# EAGLE library part RP2350_STAMP_XL (library rp2xxx_stamp)
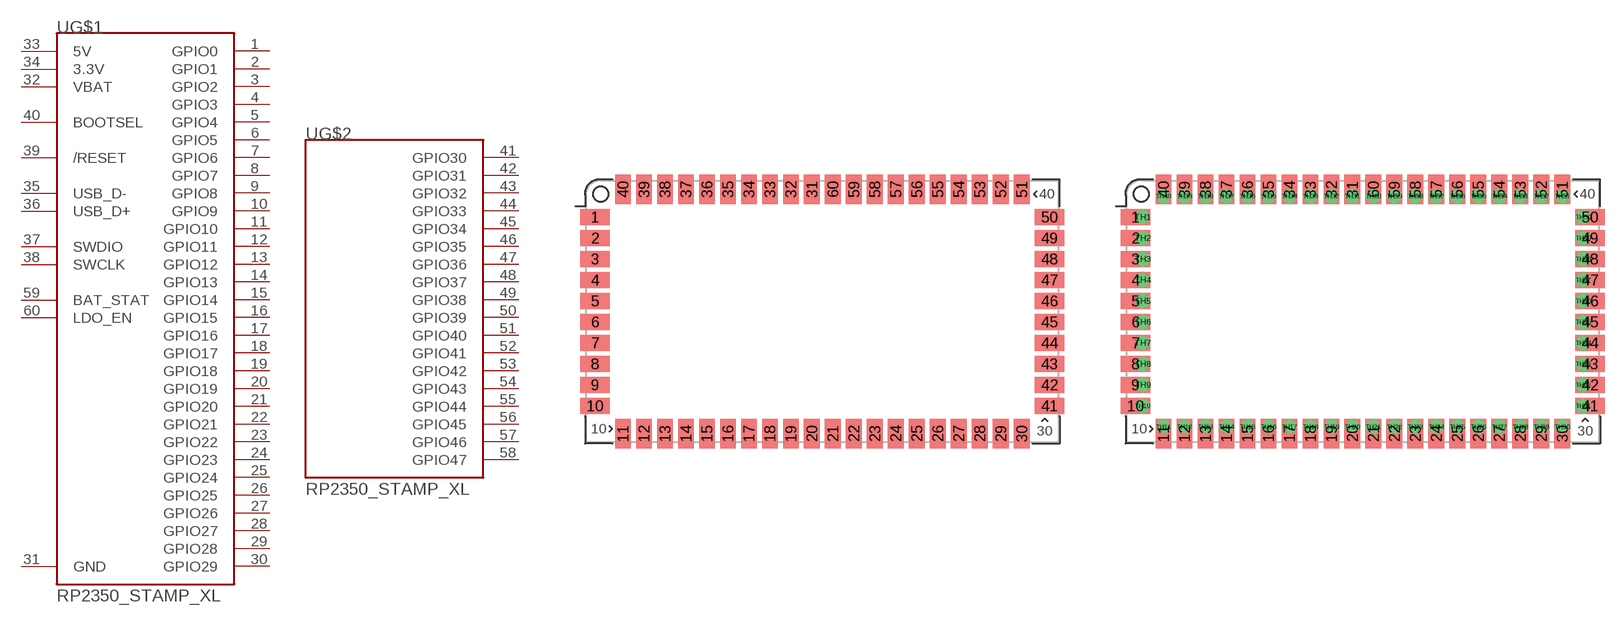
[diagram p2: symbol with the pads of RP2XXX_STAMP_XL_SMD; footprints RP2XXX_STAMP_XL_SMD, RP2XXX_STAMP_XL_THT]

Designator prefix -; gates G$1=RP2350_STAMP_XL G$2=RP2350_STAMP_XL_2

## RP2350_STAMP_XLSMD  [RP2XXX_STAMP_XL_SMD]
1  G$1:GPIO0
2  G$1:GPIO1
3  G$1:GPIO2
4  G$1:GPIO3
5  G$1:GPIO4
6  G$1:GPIO5
7  G$1:GPIO6
8  G$1:GPIO7
9  G$1:GPIO8
10  G$1:GPIO9
11  G$1:GPIO10
12  G$1:GPIO11
13  G$1:GPIO12
14  G$1:GPIO13
15  G$1:GPIO14
16  G$1:GPIO15
17  G$1:GPIO16
18  G$1:GPIO17
19  G$1:GPIO18
20  G$1:GPIO19
21  G$1:GPIO20
22  G$1:GPIO21
23  G$1:GPIO22
24  G$1:GPIO23
25  G$1:GPIO24
26  G$1:GPIO25
27  G$1:GPIO26
28  G$1:GPIO27
29  G$1:GPIO28
30  G$1:GPIO29
31  G$1:GND  pwr
32  G$1:VBAT  pwr
33  G$1:5V  pwr
34  G$1:3.3V  pwr
35  G$1:USB_D-
36  G$1:USB_D+
37  G$1:SWDIO
38  G$1:SWCLK  in
39  G$1:/RESET
40  G$1:BOOTSEL  in
41  G$2:GPIO30
42  G$2:GPIO31
43  G$2:GPIO32
44  G$2:GPIO33
45  G$2:GPIO34
46  G$2:GPIO35
47  G$2:GPIO36
48  G$2:GPIO37
49  G$2:GPIO38
50  G$2:GPIO39
51  G$2:GPIO40
52  G$2:GPIO41
53  G$2:GPIO42
54  G$2:GPIO43
55  G$2:GPIO44
56  G$2:GPIO45
57  G$2:GPIO46
58  G$2:GPIO47
59  G$1:BAT_STAT
60  G$1:LDO_EN  in

## RP2350_STAMP_XLTHT  [RP2XXX_STAMP_XL_THT]
1  G$1:GPIO0
2  G$1:GPIO1
3  G$1:GPIO2
4  G$1:GPIO3
5  G$1:GPIO4
6  G$1:GPIO5
7  G$1:GPIO6
8  G$1:GPIO7
9  G$1:GPIO8
10  G$1:GPIO9
11  G$1:GPIO10
12  G$1:GPIO11
13  G$1:GPIO12
14  G$1:GPIO13
15  G$1:GPIO14
16  G$1:GPIO15
17  G$1:GPIO16
18  G$1:GPIO17
19  G$1:GPIO18
20  G$1:GPIO19
21  G$1:GPIO20
22  G$1:GPIO21
23  G$1:GPIO22
24  G$1:GPIO23
25  G$1:GPIO24
26  G$1:GPIO25
27  G$1:GPIO26
28  G$1:GPIO27
29  G$1:GPIO28
30  G$1:GPIO29
31  G$1:GND  pwr
32  G$1:VBAT  pwr
33  G$1:5V  pwr
34  G$1:3.3V  pwr
35  G$1:USB_D-
36  G$1:USB_D+
37  G$1:SWDIO
38  G$1:SWCLK  in
39  G$1:/RESET
40  G$1:BOOTSEL  in
41  G$2:GPIO30
42  G$2:GPIO31
43  G$2:GPIO32
44  G$2:GPIO33
45  G$2:GPIO34
46  G$2:GPIO35
47  G$2:GPIO36
48  G$2:GPIO37
49  G$2:GPIO38
50  G$2:GPIO39
51  G$2:GPIO40
52  G$2:GPIO41
53  G$2:GPIO42
54  G$2:GPIO43
55  G$2:GPIO44
56  G$2:GPIO45
57  G$2:GPIO46
58  G$2:GPIO47
59  G$1:BAT_STAT
60  G$1:LDO_EN  in
TH1  G$1:GPIO0
TH2  G$1:GPIO1
TH3  G$1:GPIO2
TH4  G$1:GPIO3
TH5  G$1:GPIO4
TH6  G$1:GPIO5
TH7  G$1:GPIO6
TH8  G$1:GPIO7
TH9  G$1:GPIO8
TH10  G$1:GPIO9
TH11  G$1:GPIO10
TH12  G$1:GPIO11
TH13  G$1:GPIO12
TH14  G$1:GPIO13
TH15  G$1:GPIO14
TH16  G$1:GPIO15
TH17  G$1:GPIO16
TH18  G$1:GPIO17
TH19  G$1:GPIO18
TH20  G$1:GPIO19
TH21  G$1:GPIO20
TH22  G$1:GPIO21
TH23  G$1:GPIO22
TH24  G$1:GPIO23
TH25  G$1:GPIO24
TH26  G$1:GPIO25
TH27  G$1:GPIO26
TH28  G$1:GPIO27
TH29  G$1:GPIO28
TH30  G$1:GPIO29
TH31  G$1:GND  pwr
TH32  G$1:VBAT  pwr
TH33  G$1:5V  pwr
TH34  G$1:3.3V  pwr
TH35  G$1:USB_D-
TH36  G$1:USB_D+
TH37  G$1:SWDIO
TH38  G$1:SWCLK  in
TH39  G$1:/RESET
TH40  G$1:BOOTSEL  in
TH41  G$2:GPIO30
TH42  G$2:GPIO31
TH43  G$2:GPIO32
TH44  G$2:GPIO33
TH45  G$2:GPIO34
TH46  G$2:GPIO35
TH47  G$2:GPIO36
TH48  G$2:GPIO37
TH49  G$2:GPIO38
TH50  G$2:GPIO39
TH51  G$2:GPIO40
TH52  G$2:GPIO41
TH53  G$2:GPIO42
TH54  G$2:GPIO43
TH55  G$2:GPIO44
TH56  G$2:GPIO45
TH57  G$2:GPIO46
TH58  G$2:GPIO47
TH59  G$1:BAT_STAT
TH60  G$1:LDO_EN  in

## RP2350_STAMP_XLCOMBO_SMD  [RP2XXX_STAMP_COMBO_SMD]
1  G$1:GPIO0
2  G$1:GPIO1
3  G$1:GPIO2
4  G$1:GPIO3
5  G$1:GPIO4
6  G$1:GPIO5
7  G$1:GPIO6
8  G$1:GPIO7
9  G$1:GPIO8
10  G$1:GPIO9
11  G$1:GPIO10
12  G$1:GPIO11
13  G$1:GPIO12
14  G$1:GPIO13
15  G$1:GPIO14
16  G$1:GPIO15
17  G$1:GPIO16
18  G$1:GPIO17
19  G$1:GPIO18
20  G$1:GPIO19
21  G$1:GPIO20
22  G$1:GPIO21
23  G$1:GPIO22
24  G$1:GPIO23
25  G$1:GPIO24
26  G$1:GPIO25
27  G$1:GPIO26
28  G$1:GPIO27
29  G$1:GPIO28
30  G$1:GPIO29
31  G$1:GND  pwr
32  G$1:VBAT  pwr
33  G$1:5V  pwr
34  G$1:3.3V  pwr
35  G$1:USB_D-
36  G$1:USB_D+
37  G$1:SWDIO
38  G$1:SWCLK  in
39  G$1:/RESET
40  G$1:BOOTSEL  in
41  G$2:GPIO30
42  G$2:GPIO31
43  G$2:GPIO32
44  G$2:GPIO33
45  G$2:GPIO34
46  G$2:GPIO35
47  G$2:GPIO36
48  G$2:GPIO37
49  G$2:GPIO38
50  G$2:GPIO39
51  G$2:GPIO40
52  G$2:GPIO41
53  G$2:GPIO42
54  G$2:GPIO43
55  G$2:GPIO44
56  G$2:GPIO45
57  G$2:GPIO46
58  G$2:GPIO47
59  G$1:BAT_STAT
60  G$1:LDO_EN  in
121  G$1:GPIO20
122  G$1:GPIO21
123  G$1:GPIO22
124  G$1:GPIO23
125  G$1:GPIO24
126  G$1:GPIO25
127  G$1:GPIO26
128  G$1:GPIO27
129  G$1:GPIO28
130  G$1:GPIO29

## RP2350_STAMP_XLCOMBO_THT  [RP2XXX_STAMP_COMBO_THT]
1  G$1:GPIO0
2  G$1:GPIO1
3  G$1:GPIO2
4  G$1:GPIO3
5  G$1:GPIO4
6  G$1:GPIO5
7  G$1:GPIO6
8  G$1:GPIO7
9  G$1:GPIO8
10  G$1:GPIO9
11  G$1:GPIO10
12  G$1:GPIO11
13  G$1:GPIO12
14  G$1:GPIO13
15  G$1:GPIO14
16  G$1:GPIO15
17  G$1:GPIO16
18  G$1:GPIO17
19  G$1:GPIO18
20  G$1:GPIO19
21  G$1:GPIO20
22  G$1:GPIO21
23  G$1:GPIO22
24  G$1:GPIO23
25  G$1:GPIO24
26  G$1:GPIO25
27  G$1:GPIO26
28  G$1:GPIO27
29  G$1:GPIO28
30  G$1:GPIO29
31  G$1:GND  pwr
32  G$1:VBAT  pwr
33  G$1:5V  pwr
34  G$1:3.3V  pwr
35  G$1:USB_D-
36  G$1:USB_D+
37  G$1:SWDIO
38  G$1:SWCLK  in
39  G$1:/RESET
40  G$1:BOOTSEL  in
41  G$2:GPIO30
42  G$2:GPIO31
43  G$2:GPIO32
44  G$2:GPIO33
45  G$2:GPIO34
46  G$2:GPIO35
47  G$2:GPIO36
48  G$2:GPIO37
49  G$2:GPIO38
50  G$2:GPIO39
51  G$2:GPIO40
52  G$2:GPIO41
53  G$2:GPIO42
54  G$2:GPIO43
55  G$2:GPIO44
56  G$2:GPIO45
57  G$2:GPIO46
58  G$2:GPIO47
59  G$1:BAT_STAT
60  G$1:LDO_EN  in
121  G$1:GPIO20
122  G$1:GPIO21
123  G$1:GPIO22
124  G$1:GPIO23
125  G$1:GPIO24
126  G$1:GPIO25
127  G$1:GPIO26
128  G$1:GPIO27
129  G$1:GPIO28
130  G$1:GPIO29
TH1  G$1:GPIO0
TH2  G$1:GPIO1
TH3  G$1:GPIO2
TH4  G$1:GPIO3
TH5  G$1:GPIO4
TH6  G$1:GPIO5
TH7  G$1:GPIO6
TH8  G$1:GPIO7
TH9  G$1:GPIO8
TH10  G$1:GPIO9
TH11  G$1:GPIO10
TH12  G$1:GPIO11
TH13  G$1:GPIO12
TH14  G$1:GPIO13
TH15  G$1:GPIO14
TH16  G$1:GPIO15
TH17  G$1:GPIO16
TH18  G$1:GPIO17
TH19  G$1:GPIO18
TH20  G$1:GPIO19
TH21  G$1:GPIO20
TH22  G$1:GPIO21
TH23  G$1:GPIO22
TH24  G$1:GPIO23
TH25  G$1:GPIO24
TH26  G$1:GPIO25
TH27  G$1:GPIO26
TH28  G$1:GPIO27
TH29  G$1:GPIO28
TH30  G$1:GPIO29
TH31  G$1:GND  pwr
TH32  G$1:VBAT  pwr
TH33  G$1:5V  pwr
TH34  G$1:3.3V  pwr
TH35  G$1:USB_D-
TH36  G$1:USB_D+
TH37  G$1:SWDIO
TH38  G$1:SWCLK  in
TH39  G$1:/RESET
TH40  G$1:BOOTSEL  in
TH41  G$2:GPIO30
TH42  G$2:GPIO31
TH43  G$2:GPIO32
TH44  G$2:GPIO33
TH45  G$2:GPIO34
TH46  G$2:GPIO35
TH47  G$2:GPIO36
TH48  G$2:GPIO37
TH49  G$2:GPIO38
TH50  G$2:GPIO39
TH51  G$2:GPIO40
TH52  G$2:GPIO41
TH53  G$2:GPIO42
TH54  G$2:GPIO43
TH55  G$2:GPIO44
TH56  G$2:GPIO45
TH57  G$2:GPIO46
TH58  G$2:GPIO47
TH59  G$1:BAT_STAT
TH60  G$1:LDO_EN  in
TH121  G$1:GPIO20
TH122  G$1:GPIO21
TH123  G$1:GPIO22
TH124  G$1:GPIO23
TH125  G$1:GPIO24
TH126  G$1:GPIO25
TH127  G$1:GPIO26
TH128  G$1:GPIO27
TH129  G$1:GPIO28
TH130  G$1:GPIO29

## Footprint RP2XXX_STAMP_XL_SMD (pad centres in mm)
smd 2.8 x 1.5: 1 -21.65,9; 2 -21.65,7; 3 -21.65,5; 4 -21.65,3; 5 -21.65,1; 6 -21.65,-1; 7 -21.65,-3; 8 -21.65,-5; 9 -21.65,-7; 10 -21.65,-9; 41 21.65,-9; 42 21.65,-7; 43 21.65,-5; 44 21.65,-3; 45 21.65,-1; 46 21.65,1; 47 21.65,3; 48 21.65,5; 49 21.65,7; 50 21.65,9
smd 1.5 x 2.8: 11 -19,-11.65; 12 -17,-11.65; 13 -15,-11.65; 14 -13,-11.65; 15 -11,-11.65; 16 -9,-11.65; 17 -7,-11.65; 18 -5,-11.65; 19 -3,-11.65; 20 -1,-11.65; 21 1,-11.65; 22 3,-11.65; 23 5,-11.65; 24 7,-11.65; 25 9,-11.65; 26 11,-11.65; 27 13,-11.65; 28 15,-11.65; 29 17,-11.65; 30 19,-11.65; 31 -1,11.65; 32 -3,11.65; 33 -5,11.65; 34 -7,11.65; 35 -9,11.65; 36 -11,11.65; 37 -13,11.65; 38 -15,11.65; 39 -17,11.65; 40 -19,11.65; 51 19,11.65; 52 17,11.65; 53 15,11.65; 54 13,11.65; 55 11,11.65; 56 9,11.65; 57 7,11.65; 58 5,11.65; 59 3,11.65; 60 1,11.65

## Footprint RP2XXX_STAMP_XL_THT (pad centres in mm)
smd 2.8 x 1.5: 1 -21.65,9; 2 -21.65,7; 3 -21.65,5; 4 -21.65,3; 5 -21.65,1; 6 -21.65,-1; 7 -21.65,-3; 8 -21.65,-5; 9 -21.65,-7; 10 -21.65,-9; 41 21.65,-9; 42 21.65,-7; 43 21.65,-5; 44 21.65,-3; 45 21.65,-1; 46 21.65,1; 47 21.65,3; 48 21.65,5; 49 21.65,7; 50 21.65,9
smd 1.5 x 2.8: 11 -19,-11.65; 12 -17,-11.65; 13 -15,-11.65; 14 -13,-11.65; 15 -11,-11.65; 16 -9,-11.65; 17 -7,-11.65; 18 -5,-11.65; 19 -3,-11.65; 20 -1,-11.65; 21 1,-11.65; 22 3,-11.65; 23 5,-11.65; 24 7,-11.65; 25 9,-11.65; 26 11,-11.65; 27 13,-11.65; 28 15,-11.65; 29 17,-11.65; 30 19,-11.65; 31 -1,11.65; 32 -3,11.65; 33 -5,11.65; 34 -7,11.65; 35 -9,11.65; 36 -11,11.65; 37 -13,11.65; 38 -15,11.65; 39 -17,11.65; 40 -19,11.65; 51 19,11.65; 52 17,11.65; 53 15,11.65; 54 13,11.65; 55 11,11.65; 56 9,11.65; 57 7,11.65; 58 5,11.65; 59 3,11.65; 60 1,11.65
drill 0.8: TH1 -21,9; TH2 -21,7; TH3 -21,5; TH4 -21,3; TH5 -21,1; TH6 -21,-1; TH7 -21,-3; TH8 -21,-5; TH9 -21,-7; TH10 -21,-9; TH11 -19,-11; TH12 -17,-11; TH13 -15,-11; TH14 -13,-11; TH15 -11,-11; TH16 -9,-11; TH17 -7,-11; TH18 -5,-11; TH19 -3,-11; TH20 -1,-11; TH21 1,-11; TH22 3,-11; TH23 5,-11; TH24 7,-11; TH25 9,-11; TH26 11,-11; TH27 13,-11; TH28 15,-11; TH29 17,-11; TH30 19,-11; TH31 -1,11; TH32 -3,11; TH33 -5,11; TH34 -7,11; TH35 -9,11; TH36 -11,11; TH37 -13,11; TH38 -15,11; TH39 -17,11; TH40 -19,11; TH41 21,-9; TH42 21,-7; TH43 21,-5; TH44 21,-3; TH45 21,-1; TH46 21,1; TH47 21,3; TH48 21,5; TH49 21,7; TH50 21,9; TH51 19,11; TH52 17,11; TH53 15,11; TH54 13,11; TH55 11,11; TH56 9,11; TH57 7,11; TH58 5,11; TH59 3,11; TH60 1,11

## Footprint RP2XXX_STAMP_COMBO_SMD (pad centres in mm)
smd 2.8 x 1.5: 1 -21.65,9; 2 -21.65,7; 3 -21.65,5; 4 -21.65,3; 5 -21.65,1; 6 -21.65,-1; 7 -21.65,-3; 8 -21.65,-5; 9 -21.65,-7; 10 -21.65,-9; 21 1.65,-9; 22 1.65,-7; 23 1.65,-5; 24 1.65,-3; 25 1.65,-1; 26 1.65,1; 27 1.65,3; 28 1.65,5; 29 1.65,7; 30 1.65,9; 41 21.65,-9; 42 21.65,-7; 43 21.65,-5; 44 21.65,-3; 45 21.65,-1; 46 21.65,1; 47 21.65,3; 48 21.65,5; 49 21.65,7; 50 21.65,9
smd 1.5 x 2.8: 11 -19,-11.65; 12 -17,-11.65; 13 -15,-11.65; 14 -13,-11.65; 15 -11,-11.65; 16 -9,-11.65; 17 -7,-11.65; 18 -5,-11.65; 19 -3,-11.65; 20 -1,-11.65; 31 -1,11.65; 32 -3,11.65; 33 -5,11.65; 34 -7,11.65; 35 -9,11.65; 36 -11,11.65; 37 -13,11.65; 38 -15,11.65; 39 -17,11.65; 40 -19,11.65; 51 19,11.65; 52 17,11.65; 53 15,11.65; 54 13,11.65; 55 11,11.65; 56 9,11.65; 57 7,11.65; 58 5,11.65; 59 3,11.65; 60 1,11.65; 121 1,-11.65; 122 3,-11.65; 123 5,-11.65; 124 7,-11.65; 125 9,-11.65; 126 11,-11.65; 127 13,-11.65; 128 15,-11.65; 129 17,-11.65; 130 19,-11.65

## Footprint RP2XXX_STAMP_COMBO_THT (pad centres in mm)
smd 2.8 x 1.5: 1 -21.65,9; 2 -21.65,7; 3 -21.65,5; 4 -21.65,3; 5 -21.65,1; 6 -21.65,-1; 7 -21.65,-3; 8 -21.65,-5; 9 -21.65,-7; 10 -21.65,-9; 21 1.65,-9; 22 1.65,-7; 23 1.65,-5; 24 1.65,-3; 25 1.65,-1; 26 1.65,1; 27 1.65,3; 28 1.65,5; 29 1.65,7; 30 1.65,9; 41 21.65,-9; 42 21.65,-7; 43 21.65,-5; 44 21.65,-3; 45 21.65,-1; 46 21.65,1; 47 21.65,3; 48 21.65,5; 49 21.65,7; 50 21.65,9
smd 1.5 x 2.8: 11 -19,-11.65; 12 -17,-11.65; 13 -15,-11.65; 14 -13,-11.65; 15 -11,-11.65; 16 -9,-11.65; 17 -7,-11.65; 18 -5,-11.65; 19 -3,-11.65; 20 -1,-11.65; 31 -1,11.65; 32 -3,11.65; 33 -5,11.65; 34 -7,11.65; 35 -9,11.65; 36 -11,11.65; 37 -13,11.65; 38 -15,11.65; 39 -17,11.65; 40 -19,11.65; 51 19,11.65; 52 17,11.65; 53 15,11.65; 54 13,11.65; 55 11,11.65; 56 9,11.65; 57 7,11.65; 58 5,11.65; 59 3,11.65; 60 1,11.65; 121 1,-11.65; 122 3,-11.65; 123 5,-11.65; 124 7,-11.65; 125 9,-11.65; 126 11,-11.65; 127 13,-11.65; 128 15,-11.65; 129 17,-11.65; 130 19,-11.65
drill 0.8: TH1 -21,9; TH2 -21,7; TH3 -21,5; TH4 -21,3; TH5 -21,1; TH6 -21,-1; TH7 -21,-3; TH8 -21,-5; TH9 -21,-7; TH10 -21,-9; TH11 -19,-11; TH12 -17,-11; TH13 -15,-11; TH14 -13,-11; TH15 -11,-11; TH16 -9,-11; TH17 -7,-11; TH18 -5,-11; TH19 -3,-11; TH20 -1,-11; TH21 1,-9; TH22 1,-7; TH23 1,-5; TH24 1,-3; TH25 1,-1; TH26 1,1; TH27 1,3; TH28 1,5; TH29 1,7; TH30 1,9; TH31 -1,11; TH32 -3,11; TH33 -5,11; TH34 -7,11; TH35 -9,11; TH36 -11,11; TH37 -13,11; TH38 -15,11; TH39 -17,11; TH40 -19,11; TH41 21,-9; TH42 21,-7; TH43 21,-5; TH44 21,-3; TH45 21,-1; TH46 21,1; TH47 21,3; TH48 21,5; TH49 21,7; TH50 21,9; TH51 19,11; TH52 17,11; TH53 15,11; TH54 13,11; TH55 11,11; TH56 9,11; TH57 7,11; TH58 5,11; TH59 3,11; TH60 1,11; TH121 1,-11; TH122 3,-11; TH123 5,-11; TH124 7,-11; TH125 9,-11; TH126 11,-11; TH127 13,-11; TH128 15,-11; TH129 17,-11; TH130 19,-11